# EAGLE library part STM32H7S3Z8T6 (library STM32H7S3Z8T6)
Arm Cortex-M7 32-bit 600 MHz MCU, 64 KB flash, 620 KB RAM, Ethernet, 2x USB, 2x FD-CAN, advanced graphics and security, 2x 12-bit ADCs Source: Datasheet <https://www.st.com/resource/en/datasheet/stm32h7s3a8.pdf>
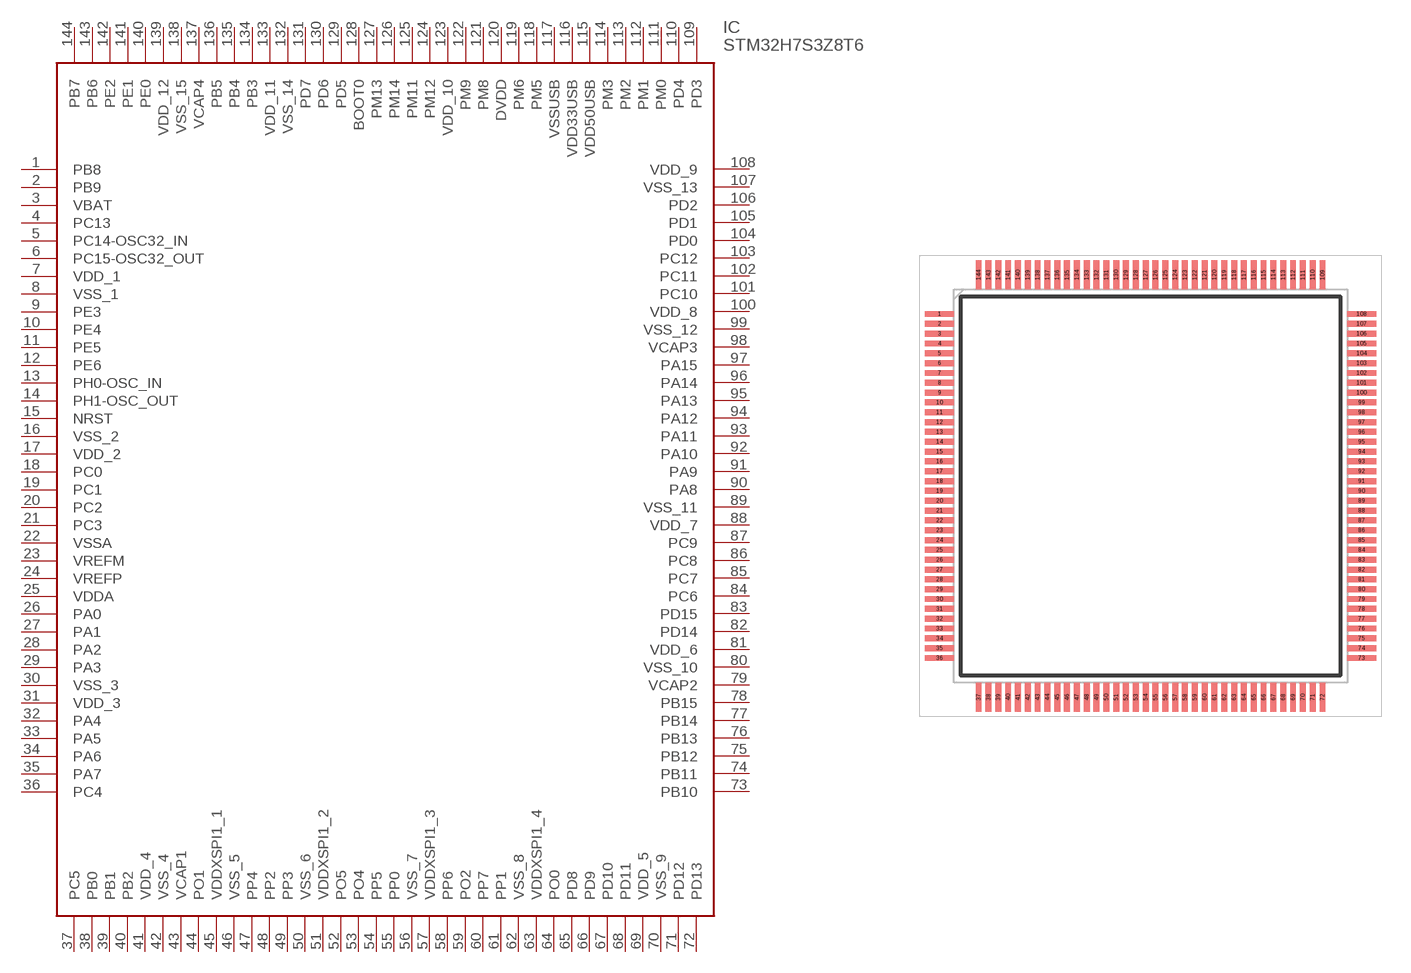
[diagram p0: symbol with the pads of QFP50P2200X2200X160-144N; footprint QFP50P2200X2200X160-144N]

Designator prefix IC

## STM32H7S3Z8T6 (Description: Arm Cortex-M7 32-bit 600 MHz MCU, 64 KB flash, 620 KB RAM, Ethernet, 2x USB, 2x FD-CAN, advanced graphics and security, 2x 12-bit ADCs; Height: 1.6mm; Manufacturer_Name: STMicroelectronics; Manufacturer_Part_Number: STM32H7S3Z8T6; Mouser_Part_Number: 511-STM32H7S3Z8T6; Mouser_Price-Stock: https://www.mouser.co.uk/ProductDetail/STMicroelectronics/STM32H7S3Z8T6?qs=ZcfC38r4PotPovZkZh9H4g%3D%3D)  [QFP50P2200X2200X160-144N]
1  PB8
2  PB9
3  VBAT
4  PC13
5  PC14-OSC32_IN
6  PC15-OSC32_OUT
7  VDD_1
8  VSS_1
9  PE3
10  PE4
11  PE5
12  PE6
13  PH0-OSC_IN
14  PH1-OSC_OUT
15  NRST
16  VSS_2
17  VDD_2
18  PC0
19  PC1
20  PC2
21  PC3
22  VSSA
23  VREFM
24  VREFP
25  VDDA
26  PA0
27  PA1
28  PA2
29  PA3
30  VSS_3
31  VDD_3
32  PA4
33  PA5
34  PA6
35  PA7
36  PC4
37  PC5
38  PB0
39  PB1
40  PB2
41  VDD_4
42  VSS_4
43  VCAP1
44  PO1
45  VDDXSPI1_1
46  VSS_5
47  PP4
48  PP2
49  PP3
50  VSS_6
51  VDDXSPI1_2
52  PO5
53  PO4
54  PP5
55  PP0
56  VSS_7
57  VDDXSPI1_3
58  PP6
59  PO2
60  PP7
61  PP1
62  VSS_8
63  VDDXSPI1_4
64  PO0
65  PD8
66  PD9
67  PD10
68  PD11
69  VDD_5
70  VSS_9
71  PD12
72  PD13
73  PB10
74  PB11
75  PB12
76  PB13
77  PB14
78  PB15
79  VCAP2
80  VSS_10
81  VDD_6
82  PD14
83  PD15
84  PC6
85  PC7
86  PC8
87  PC9
88  VDD_7
89  VSS_11
90  PA8
91  PA9
92  PA10
93  PA11
94  PA12
95  PA13
96  PA14
97  PA15
98  VCAP3
99  VSS_12
100  VDD_8
101  PC10
102  PC11
103  PC12
104  PD0
105  PD1
106  PD2
107  VSS_13
108  VDD_9
109  PD3
110  PD4
111  PM0
112  PM1
113  PM2
114  PM3
115  VDD50USB
116  VDD33USB
117  VSSUSB
118  PM5
119  PM6
120  DVDD
121  PM8
122  PM9
123  VDD_10
124  PM12
125  PM11
126  PM14
127  PM13
128  BOOT0
129  PD5
130  PD6
131  PD7
132  VSS_14
133  VDD_11
134  PB3
135  PB4
136  PB5
137  VCAP4
138  VSS_15
139  VDD_12
140  PE0
141  PE1
142  PE2
143  PB6
144  PB7

## Footprint QFP50P2200X2200X160-144N (pad centres in mm)
LQFP-144 PIN
smd 1.475 x 0.3: 1 -10.738,8.75; 2 -10.738,8.25; 3 -10.738,7.75; 4 -10.738,7.25; 5 -10.738,6.75; 6 -10.738,6.25; 7 -10.738,5.75; 8 -10.738,5.25; 9 -10.738,4.75; 10 -10.738,4.25; 11 -10.738,3.75; 12 -10.738,3.25; 13 -10.738,2.75; 14 -10.738,2.25; 15 -10.738,1.75; 16 -10.738,1.25; 17 -10.738,0.75; 18 -10.738,0.25; 19 -10.738,-0.25; 20 -10.738,-0.75; 21 -10.738,-1.25; 22 -10.738,-1.75; 23 -10.738,-2.25; 24 -10.738,-2.75; 25 -10.738,-3.25; 26 -10.738,-3.75; 27 -10.738,-4.25; 28 -10.738,-4.75; 29 -10.738,-5.25; 30 -10.738,-5.75; 31 -10.738,-6.25; 32 -10.738,-6.75; 33 -10.738,-7.25; 34 -10.738,-7.75; 35 -10.738,-8.25; 36 -10.738,-8.75; 73 10.738,-8.75; 74 10.738,-8.25; 75 10.738,-7.75; 76 10.738,-7.25; 77 10.738,-6.75; 78 10.738,-6.25; 79 10.738,-5.75; 80 10.738,-5.25; 81 10.738,-4.75; 82 10.738,-4.25; 83 10.738,-3.75; 84 10.738,-3.25; 85 10.738,-2.75; 86 10.738,-2.25; 87 10.738,-1.75; 88 10.738,-1.25; 89 10.738,-0.75; 90 10.738,-0.25; 91 10.738,0.25; 92 10.738,0.75; 93 10.738,1.25; 94 10.738,1.75; 95 10.738,2.25; 96 10.738,2.75; 97 10.738,3.25; 98 10.738,3.75; 99 10.738,4.25; 100 10.738,4.75; 101 10.738,5.25; 102 10.738,5.75; 103 10.738,6.25; 104 10.738,6.75; 105 10.738,7.25; 106 10.738,7.75; 107 10.738,8.25; 108 10.738,8.75
smd 0.3 x 1.475: 37 -8.75,-10.738; 38 -8.25,-10.738; 39 -7.75,-10.738; 40 -7.25,-10.738; 41 -6.75,-10.738; 42 -6.25,-10.738; 43 -5.75,-10.738; 44 -5.25,-10.738; 45 -4.75,-10.738; 46 -4.25,-10.738; 47 -3.75,-10.738; 48 -3.25,-10.738; 49 -2.75,-10.738; 50 -2.25,-10.738; 51 -1.75,-10.738; 52 -1.25,-10.738; 53 -0.75,-10.738; 54 -0.25,-10.738; 55 0.25,-10.738; 56 0.75,-10.738; 57 1.25,-10.738; 58 1.75,-10.738; 59 2.25,-10.738; 60 2.75,-10.738; 61 3.25,-10.738; 62 3.75,-10.738; 63 4.25,-10.738; 64 4.75,-10.738; 65 5.25,-10.738; 66 5.75,-10.738; 67 6.25,-10.738; 68 6.75,-10.738; 69 7.25,-10.738; 70 7.75,-10.738; 71 8.25,-10.738; 72 8.75,-10.738; 109 8.75,10.738; 110 8.25,10.738; 111 7.75,10.738; 112 7.25,10.738; 113 6.75,10.738; 114 6.25,10.738; 115 5.75,10.738; 116 5.25,10.738; 117 4.75,10.738; 118 4.25,10.738; 119 3.75,10.738; 120 3.25,10.738; 121 2.75,10.738; 122 2.25,10.738; 123 1.75,10.738; 124 1.25,10.738; 125 0.75,10.738; 126 0.25,10.738; 127 -0.25,10.738; 128 -0.75,10.738; 129 -1.25,10.738; 130 -1.75,10.738; 131 -2.25,10.738; 132 -2.75,10.738; 133 -3.25,10.738; 134 -3.75,10.738; 135 -4.25,10.738; 136 -4.75,10.738; 137 -5.25,10.738; 138 -5.75,10.738; 139 -6.25,10.738; 140 -6.75,10.738; 141 -7.25,10.738; 142 -7.75,10.738; 143 -8.25,10.738; 144 -8.75,10.738